# EAGLE library part AK130/18 (library PTR_AK130)
ANSCHLUSSKLEMME AK130 (18POLIG)
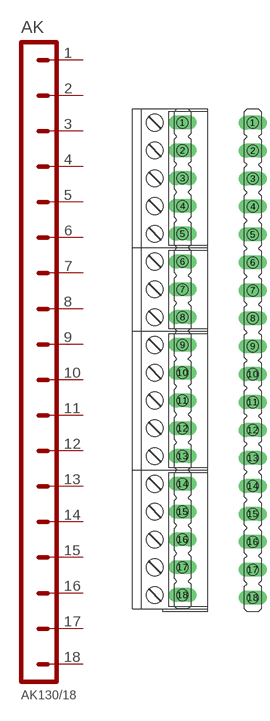
[diagram p12: symbol with the pads of AK18; footprints AK18, STL18]

Designator prefix AK

## AK130/18  [AK18]
1  P$1
2  P$2
3  P$3
4  P$4
5  P$5
6  P$6
7  P$7
8  P$8
9  P$9
10  P$10
11  P$11
12  P$12
13  P$13
14  P$14
15  P$15
16  P$16
17  P$17
18  P$18

## AK130/18_STL  [STL18]
Pads as for AK18

## Footprint AK18 (pad centres in mm)
AK130 (18POLIG) 1x AK130/3-5.0-GRAU 3x AK130/5-5.0-GRAU STL130/24-5.0-V-SCHWARZ
drill 1.5 pad 2.54 long: 1 0,42.5; 2 0,37.5; 3 0,32.5; 4 0,27.5; 5 0,22.5; 6 0,17.5; 7 0,12.5; 8 0,7.5; 9 0,2.5; 10 0,-2.5; 11 0,-7.5; 12 0,-12.5; 13 0,-17.5; 14 0,-22.5; 15 0,-27.5; 16 0,-32.5; 17 0,-37.5; 18 0,-42.5

## Footprint STL18 (pad centres in mm)
STL130 (18POLIG) STL130/24-5.0-V-SCHWARZ
drill 1.5 pad 2.54 long: 1 0,42.5; 2 0,37.5; 3 0,32.5; 4 0,27.5; 5 0,22.5; 6 0,17.5; 7 0,12.5; 8 0,7.5; 9 0,2.5; 10 0,-2.5; 11 0,-7.5; 12 0,-12.5; 13 0,-17.5; 14 0,-22.5; 15 0,-27.5; 16 0,-32.5; 17 0,-37.5; 18 0,-42.5